# Altium schematic symbol library SchLib_Recinto.SchLib: 43 symbols
Pins are listed as number, name and electrical type; pins without a type are passive.

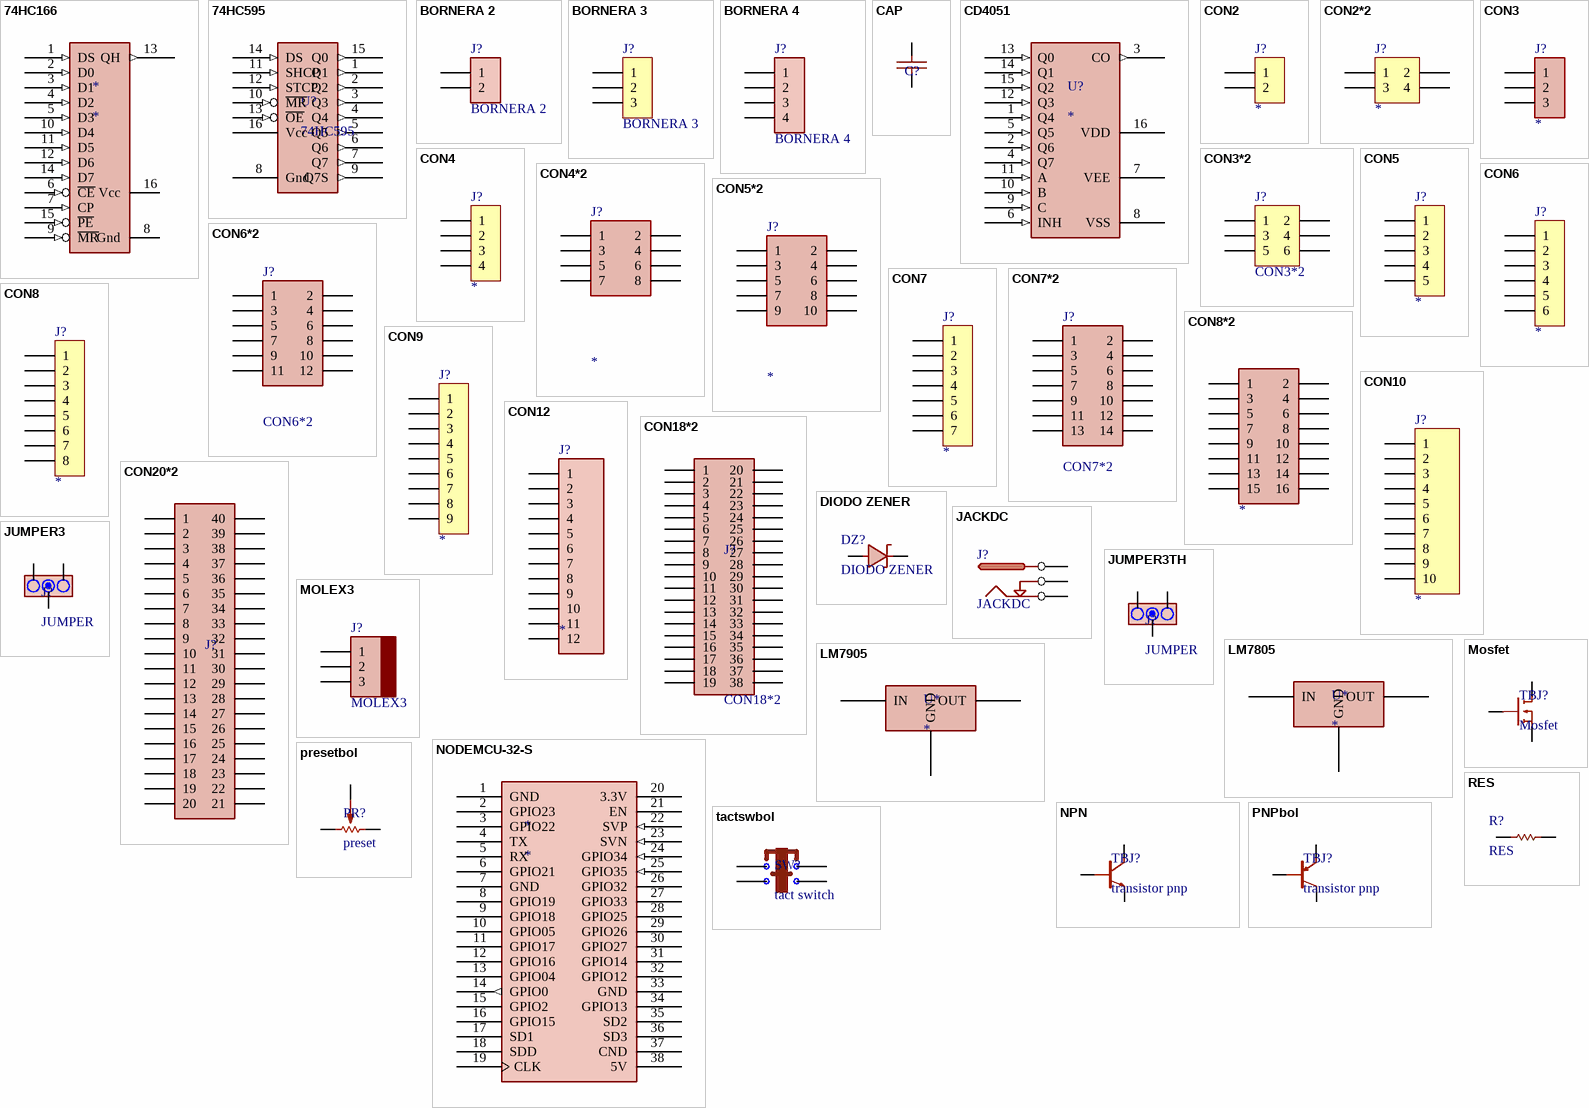
[diagram p0: symbols 74HC166 to tactswbol]

## 74HC166
designator *
footprint 74HC166 (SOP, 16-Leads, Body 9,90x3,90mm, Pitch 1,27mm, IPC Medium Density)
pins: 1 DS (in), 2 D0 (in), 3 D1 (in), 4 D2 (in), 5 D3 (in), 6 ~{CE} (in), 7 CP (in), 8 Gnd (power), 9 ~{MR} (in), 10 D4 (in), 11 D5 (in), 12 D6 (in), 13 QH (out), 14 D7 (in), 15 ~{PE} (in), 16 Vcc (power)

## 74HC595
designator U?
footprint SOIC16N (Footprint not found)
footprint DIP16 (Footprint not found)
footprint SOIC-16 (SOIC, 16-Leads, Body 9,90x3,90mm, Pitch 1,27mm, IPC Medium Density)
footprint SO-16 (SOP, 16-Leads, Body 9,90x3,90mm, Pitch 1,27mm, IPC Medium Density)
pins: 1 Q1 (out), 2 Q2 (out), 3 Q3 (out), 4 Q4 (out), 5 Q5 (out), 6 Q6 (out), 7 Q7 (out), 8 Gnd (power), 9 Q7S (out), 10 ~{MR} (in), 11 SHCP (in), 12 STCP (in), 13 ~{OE} (in), 14 DS (in), 15 Q0 (out), 16 Vcc (power)

## BORNERA 2
designator J?
footprint BORNERA2 (Bornera con Tornillos 5mm separación)
pins: 1, 2

## BORNERA 3
designator J?
footprint BORNERA3 (Bornera con Tornillos 5mm separación)
pins: 1, 2, 3

## BORNERA 4
designator J?
footprint BORNERA4 (Bornera con Tornillos 5mm separación)
pins: 1, 2, 3, 4

## CAP
designator C?
footprint 0805 (Pasivo 0805)
pins: 1, 2

## CD4051
designator U?
footprint CD4051 (SOP, 16-Leads, Body 9,90x3,90mm, Pitch 1,27mm, IPC Medium Density)
pins: 1 Q4 (in), 2 Q6 (in), 3 CO (out), 4 Q7 (in), 5 Q5 (in), 6 INH (in), 7 VEE (power), 8 VSS (power), 9 C (in), 10 B (in), 11 A (in), 12 Q3 (in), 13 Q0 (in), 14 Q1 (in), 15 Q2 (in), 16 VDD (power)

## CON2
designator J?
footprint SIP2
footprint SIP2 90
pins: 1, 2

## CON2*2
designator J?
footprint SIP2*2
pins: 1, 2, 3, 4

## CON3
designator J?
footprint SIP3
footprint SIP3 90
pins: 1, 2, 3

## CON3*2
designator J?
footprint SIP3*2
pins: 1, 2, 3, 4, 5, 6

## CON4
designator J?
footprint SIP4
footprint SIP4 90
pins: 1, 2, 3, 4

## CON4*2
designator J?
footprint SIP4*2
pins: 1, 2, 3, 4, 5, 6, 7, 8

## CON5
designator J?
footprint SIP5
footprint SIP5 90
pins: 1, 2, 3, 4, 5

## CON5*2
designator J?
footprint SIP5*2
pins: 1, 2, 3, 4, 5, 6, 7, 8, 9, 10

## CON6
designator J?
footprint SIP6
footprint SIP6 90
pins: 1, 2, 3, 4, 5, 6

## CON6*2
designator J?
footprint SIP6*2
pins: 1, 2, 3, 4, 5, 6, 7, 8, 9, 10, 11, 12

## CON7
designator J?
footprint SIP7
footprint SIP7 90
pins: 1, 2, 3, 4, 5, 6, 7

## CON7*2
designator J?
footprint SIP7*2
pins: 1, 2, 3, 4, 5, 6, 7, 8, 9, 10, 11, 12, 13, 14

## CON8
designator J?
footprint SIP8
footprint SIP8 90
pins: 1, 2, 3, 4, 5, 6, 7, 8

## CON8*2
designator ?
footprint SIP8*2
pins: 1, 2, 3, 4, 5, 6, 7, 8, 9, 10, 11, 12, 13, 14, 15, 16

## CON9
designator J?
footprint SIP9
footprint SIP9 90
pins: 1, 2, 3, 4, 5, 6, 7, 8, 9

## CON10
designator J?
footprint SIP10 (Footprint not found)
footprint SIP10 90
pins: 1, 2, 3, 4, 5, 6, 7, 8, 9, 10

## CON12
designator J?
footprint SIP12
pins: 1, 2, 3, 4, 5, 6, 7, 8, 9, 10, 11, 12

## CON18*2
designator J?
footprint SIP18*2
pins: 1, 2, 3, 4, 5, 6, 7, 8, 9, 10, 11, 12, 13, 14, 15, 16, 17, 18, 19, 20, 21, 22, 23, 24, 25, 26, 27, 28, 29, 30, 31, 32, 33, 34, 35, 36, 37, 38

## CON20*2
designator J?
footprint SIP20*2
pins: 1, 2, 3, 4, 5, 6, 7, 8, 9, 10, 11, 12, 13, 14, 15, 16, 17, 18, 19, 20, 21, 22, 23, 24, 25, 26, 27, 28, 29, 30, 31, 32, 33, 34, 35, 36, 37, 38, 39, 40

## DIODO ZENER
designator DZ?
footprint SOT-23 (SOT23, 3-Leads, Body 2,90x2,30mm, Pitch 0,95mm, IPC Medium Density)
footprint DO41
footprint miniMELF (MELF Diode, 2-Leads, Body 3,50x1,50mm, IPC Medium Density)
pins: 1, 2

## JACKDC
designator J?
footprint JACKDC
pins: 1, 2, 3

## JUMPER3
designator J?, comment JUMPER
footprint JUMPER3
pins: 1, 2, 3

## JUMPER3TH
designator J?, comment JUMPER
TIRA DE PINES 1x3
footprint JUMPER3TH
pins: 1, 2, 3

## LM7805
designator U*
footprint TO-220 V
pins: 1 GND, 2 OUT, 3 IN

## LM7905
designator U*
footprint TO-220 V
pins: 1 GND, 2 IN, 3 OUT

## MOLEX3
designator J?
footprint MOLEX3
pins: 1, 2, 3

## Mosfet
designator TBJ?
footprint SOT-23 (SOT23, 3-Leads, Body 2,90x2,30mm, Pitch 0,95mm, IPC Medium Density)
pins: 1 B, 2 C, 3 E

## NODEMCU-32-S
designator *
footprint NODEMCU-ESP32S
pins: 1 GND (power), 2 GPIO23, 3 GPIO22, 4 TX, 5 RX, 6 GPIO21, 7 GND (power), 8 GPIO19, 9 GPIO18, 10 GPIO05, 11 GPIO17, 12 GPIO16, 13 GPIO04, 14 GPIO0 (out), 15 GPIO2, 16 GPIO15, 17 SD1, 18 SDD, 19 CLK, 20 3.3V (power), 21 EN, 22 SVP (in), 23 SVN (in), 24 GPIO34 (in), 25 GPIO35 (in), 26 GPIO32, 27 GPIO33, 28 GPIO25, 29 GPIO26, 30 GPIO27, 31 GPIO14, 32 GPIO12, 33 GND (power), 34 GPIO13, 35 SD2, 36 SD3, 37 CND, 38 5V (power)

## NPN
designator TBJ?, comment transistor pnp
footprint TO92
footprint SOT-23 (SOT23, 3-Leads, Body 2,90x2,30mm, Pitch 0,95mm, IPC Medium Density)
pins: 1 B, 2 C, 3 E

## PNPbol
designator TBJ?, comment transistor pnp
footprint TO92
footprint SOT-23 (SOT23, 3-Leads, Body 2,90x2,30mm, Pitch 0,95mm, IPC Medium Density)
pins: 1 B, 2 C, 3 E

## presetbol
designator PR?, comment preset
footprint PRESET H1L
footprint PRESET H2T
footprint PRESET V
pins: 1, 2, 3

## RES
designator R?
footprint 0805 (Pasivo 0805)
pins: 1, 2

## tactswbol
designator SW?, comment tact switch
footprint TACTSWITCH
pins: 1, 2, 3, 4

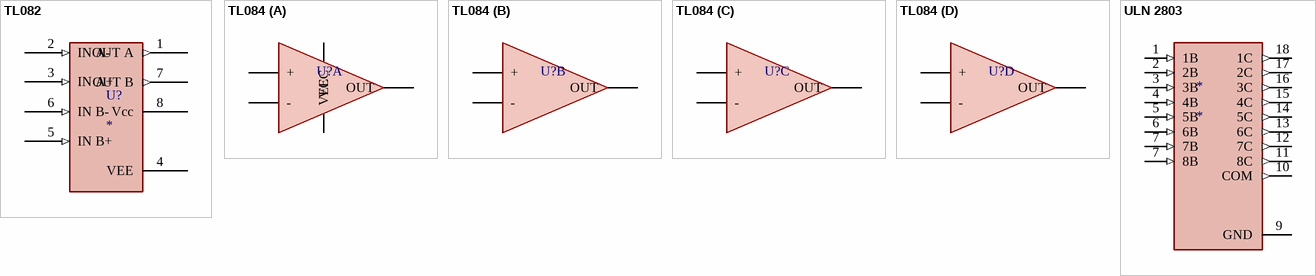
[diagram p1: symbols TL082 to ULN 2803]

## TL082
designator U?
pins: 1 OUT A (out), 2 IN A- (in), 3 IN A+ (in), 4 VEE, 5 IN B+ (in), 6 IN B- (in), 7 OUT B (out), 8 Vcc

## TL084
designator U?
footprint SOIC-14 (SOIC, 14-Leads, Body 8.65x3.90mm, Pitch 1.27mm, IPC Medium Density)
part A pins: 1 OUT, 2 -, 3 +, 4 VCC, 11 VEE
part B pins: 5 +, 6 -, 7 OUT
part C pins: 8 OUT, 9 -, 10 +
part D pins: 12 +, 13 -, 14 OUT

## ULN 2803
designator *
footprint SOP-16N (SOP, 16-Leads, Body 9,90x3,90mm, Pitch 1,27mm, IPC Medium Density)
pins: 1 1B (in), 2 2B (in), 3 3B (in), 4 4B (in), 5 5B (in), 6 6B (in), 7 7B (in), 7 8B (in), 9 GND (power), 10 COM (out), 11 8C (out), 12 7C (out), 13 6C (out), 14 5C (out), 15 4C (out), 16 3C (out), 17 2C (out), 18 1C (out)